# Altium footprint library PCB_Parts.PcbLib: 6 footprints
Each footprint in its own frame and in the unit in brackets; x right, y up, seen from the top. Pads: shape width x height; smd on the part's side, far side on the other; paste and mask are expansions set on the pad; w line width, h text height; cw(c..) or ccw(c..) is an arc to the next point about the centre after c.
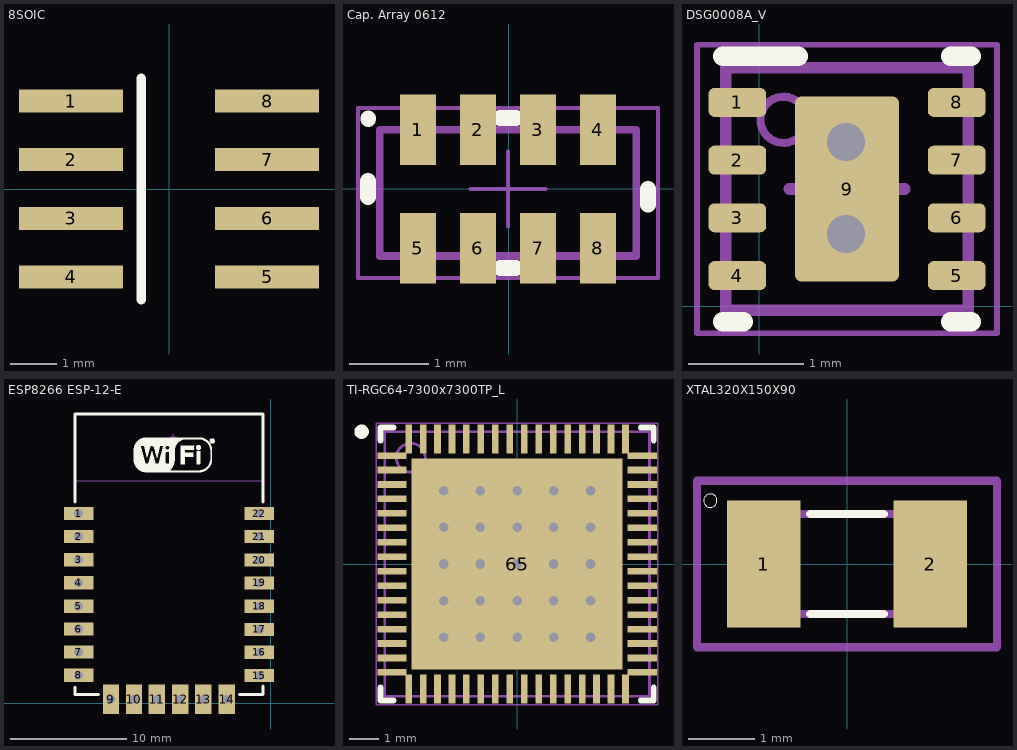
[diagram p0: the footprints below, top view; thin cyan lines are the x and y axes]

## 8SOIC [mm]
pads (8):
  rect 2.25x0.5 smd: 1(-2.125,1.905) 2(-2.125,0.635) 3(-2.125,-0.635) 4(-2.125,-1.905) 5(2.125,-1.905) 6(2.125,-0.635) 7(2.125,0.635) 8(2.125,1.905)
Top Overlay:
  lines w0.2: -0.6,-2.4 -0.6,2.4
3D body: height 0.75, standoff 0, extent -2.95,1.655 -1.95,2.155
3D body: height 0.75, standoff 0, extent -2.95,0.385 -1.95,0.885
3D body: height 0.75, standoff 0, extent -2.95,-0.885 -1.95,-0.385
3D body: height 0.75, standoff 0, extent 1.95,1.65 2.95,2.15
3D body: height 0.75, standoff 0, extent -2.95,-2.155 -1.95,-1.655
3D body: height 0.75, standoff 0, extent 1.95,-2.155 2.95,-1.655
3D body: height 0.75, standoff 0, extent 1.95,-0.885 2.95,-0.385
3D body: height 0.75, standoff 0, extent 1.95,0.385 2.95,0.885
3D body: height 0.75, standoff 0, extent 1.95,1.65 2.95,2.15
3D body: height 1.5, standoff 0, extent -1.95,-2.45 1.95,2.45

## Cap. Array 0612 [mm]
pads (8):
  rect 0.46x0.89 smd: 1(-1.148,0.745) 2(-0.388,0.745) 3(0.372,0.745) 4(1.132,0.745) 5(-1.148,-0.755) 6(-0.388,-0.755) 7(0.372,-0.755) 8(1.132,-0.755)
Top Overlay:
  lines w0.2: -1.783,-0.105 -1.783,0.095 ; -1.779,0.88 -1.778,0.892 ; -0.108,-1.005 0.092,-1.005 ; -0.108,0.895 0.092,0.895 ; 1.767,-0.205 1.767,-0.005
Mechanical 13:
  lines w0.1: -1.633,-0.855 1.617,-0.855 1.617,0.745 -1.633,0.745 -1.633,-0.855
Mechanical 15:
  lines w0.05: -0.483,-0.005 0.467,-0.005 ; -0.008,-0.48 -0.008,0.47 ; -1.908,-1.13 1.892,-1.13 1.892,1.02 -1.908,1.02 -1.908,-1.13
3D body: height 1.35, standoff 0, extent -1.608,-0.53 1.592,0.52
3D body: height 1.35, standoff 0, extent -1.608,0.52 1.592,0.695
3D body: height 1.35, standoff 0, extent -1.608,-0.805 1.592,-0.53

## DSG0008A_V [mm] "SON, 8-Leads, Body 2x2mm, Pitch 0.5mm, Thermal Pad 1.6x0.9mm, TI Recommended"
height 0.8
pads (9):
  rrect40% 0.5x0.25 smd: 1(-0.188,1.766) 2(-0.188,1.266) 3(-0.188,0.766) 4(-0.188,0.266) 5(1.712,0.266) 6(1.712,0.766) 7(1.712,1.266) 8(1.712,1.766)
  rrect11% 0.9x1.6 smd paste-0.45: 9(0.762,1.016)
via 0.754,0.625 diameter 0.686 hole 0.33
via 0.754,1.425 diameter 0.686 hole 0.33
Top Overlay:
  lines w0.17: -0.313,-0.134 -0.138,-0.134 ; -0.313,2.166 0.337,2.166 ; 1.662,-0.134 1.837,-0.134 ; 1.662,2.166 1.837,2.166
Top Paste:
  rectangle: 0.335,0.283 1.189,1.749
Mechanical 1:
  text ".Designator" at -0.762,2.54 h0.51
Mechanical 13:
  circle w0.07: c0.212,1.616 r0.2
  lines w0.1: -0.288,-0.034 1.812,-0.034 1.812,2.066 -0.288,2.066 -0.288,-0.034
Mechanical 15:
  lines w0.05: -0.538,-0.234 -0.538,2.266 2.062,2.266 2.062,-0.234 -0.538,-0.234
  lines w0.1: 0.262,1.016 1.262,1.016 ; 0.762,0.516 0.762,1.516
3D body: height 0.8, standoff 0, extent -0.288,-0.034 1.812,2.066
3D body: height 0.8, standoff 0.5, extent 0.013,1.417 0.411,1.815

## ESP8266 ESP-12-E [mil] "ESP8266 ESP-12-E"
pads (22):
  rect 100x45 hole 30: 1(-653,646) 2(-653,568) 3(-653,489) 4(-653,411) 5(-653,331) 6(-653,253) 7(-653,175) 8(-653,96) 15(-38,95) 16(-38,174) 17(-38,252) 18(-39,331) 19(-39,410) 20(-39,488) 21(-39,568) 22(-39,646)
  rect 55x100 hole 30: 9(-543,14) 10(-465,14) 11(-387,14) 12(-307,14) 13(-229,14) 14(-149,14)
Top Overlay:
  drawing of 1267 lines, arcs and shapes, not listed
  text ".Designator" at -679,-84 h39.37
Mechanical 13:
  lines w2: -662.96,757.97 -22.96,757.97
  text "CUTOUT POLYGON" at -652.96,940.59 h10
  text "ANTENNA AREA" at -652.96,960.59 h10
Mechanical 15:
  lines w3.94: -341,907.92 -321,907.92 ; -331,897.92 -331,917.92
3D body: height 85.7, standoff -1.17, extent -661,36.56 -31.08,981.44
3D body: height 88.58, standoff 0, extent -604.72,70.91 -89.53,670.39

## TI-RGC64-7300x7300TP_L [mm] "QFN, 64-Leads, Body 9.15x9.15mm, Pitch 0.50mm, Thermal Pad 7.30x7.30mm, IPC High Density"
height 1
pads (65):
  rect 1.016x0.229 smd: 1(-4.325,3.75) 2(-4.325,3.25) 3(-4.325,2.75) 4(-4.325,2.25) 5(-4.325,1.75) 6(-4.325,1.25) 7(-4.325,0.75) 8(-4.325,0.25) 9(-4.325,-0.25) 10(-4.325,-0.75) 11(-4.325,-1.25) 12(-4.325,-1.75) 13(-4.325,-2.25) 14(-4.325,-2.75) 15(-4.325,-3.25) 16(-4.325,-3.75) 33(4.325,-3.75) 34(4.325,-3.25) 35(4.325,-2.75) 36(4.325,-2.25) 37(4.325,-1.75) 38(4.325,-1.25) 39(4.325,-0.75) 40(4.325,-0.25) 41(4.325,0.25) 42(4.325,0.75) 43(4.325,1.25) 44(4.325,1.75) 45(4.325,2.25) 46(4.325,2.75) 47(4.325,3.25) 48(4.325,3.75)
  rect 0.229x1.016 smd: 17(-3.75,-4.325) 18(-3.25,-4.325) 19(-2.75,-4.325) 20(-2.25,-4.325) 21(-1.75,-4.325) 22(-1.25,-4.325) 23(-0.75,-4.325) 24(-0.25,-4.325) 25(0.25,-4.325) 26(0.75,-4.325) 27(1.25,-4.325) 28(1.75,-4.325) 29(2.25,-4.325) 30(2.75,-4.325) 31(3.25,-4.325) 32(3.75,-4.325) 49(3.75,4.325) 50(3.25,4.325) 51(2.75,4.325) 52(2.25,4.325) 53(1.75,4.325) 54(1.25,4.325) 55(0.75,4.325) 56(0.25,4.325) 57(-0.25,4.325) 58(-0.75,4.325) 59(-1.25,4.325) 60(-1.75,4.325) 61(-2.25,4.325) 62(-2.75,4.325) 63(-3.25,4.325) 64(-3.75,4.325)
  rect 7.3x7.3 smd: 65(0,0)
via -1.27,-2.54 diameter 0.686 hole 0.33
via 2.54,-2.54 diameter 0.686 hole 0.33
via 1.27,-2.54 diameter 0.686 hole 0.33
via 0,-2.54 diameter 0.686 hole 0.33
via -2.54,-2.54 diameter 0.686 hole 0.33
via -1.27,-1.27 diameter 0.686 hole 0.33
via 2.54,-1.27 diameter 0.686 hole 0.33
via 1.27,-1.27 diameter 0.686 hole 0.33
via 0,-1.27 diameter 0.686 hole 0.33
via -2.54,-1.27 diameter 0.686 hole 0.33
via -1.27,0 diameter 0.686 hole 0.33
via 2.54,0 diameter 0.686 hole 0.33
via 1.27,0 diameter 0.686 hole 0.33
via 0,0 diameter 0.686 hole 0.33
via -2.54,0 diameter 0.686 hole 0.33
via -1.27,1.27 diameter 0.686 hole 0.33
via 2.54,1.27 diameter 0.686 hole 0.33
via 1.27,1.27 diameter 0.686 hole 0.33
via 0,1.27 diameter 0.686 hole 0.33
via -2.54,1.27 diameter 0.686 hole 0.33
via -2.54,2.54 diameter 0.686 hole 0.33
via 0,2.54 diameter 0.686 hole 0.33
via 1.27,2.54 diameter 0.686 hole 0.33
via 2.54,2.54 diameter 0.686 hole 0.33
via -1.27,2.54 diameter 0.686 hole 0.33
Top Overlay:
  circle w0.25: c-5.375,4.575 r0.125
  lines w0.2: -4.725,-4.275 -4.725,-4.725 -4.275,-4.725 ; -4.725,4.275 -4.725,4.725 -4.275,4.725 ; 4.275,-4.725 4.725,-4.725 4.725,-4.275 ; 4.275,4.725 4.725,4.725 4.725,4.275
Mechanical 13:
  circle w0.1: c-3.675,3.675 r0.5
  lines w0.1: -4.575,-4.575 -4.575,4.575 4.575,4.575 4.575,-4.575 -4.575,-4.575
Mechanical 15:
  lines w0.05: -4.875,-4.875 -4.875,4.875 4.875,4.875 4.875,-4.875 -4.875,-4.875
  lines w0.1: -0.5,0 0.5,0 ; 0,-0.5 0,0.5
3D body: height 1, standoff 0, extent -4.575,-4.575 4.575,4.575

## XTAL320X150X90 [mm]
pads (2):
  rect 1.1x1.9 smd: 1(-1.25,0) 2(1.25,0)
Top Overlay:
  circle w0: c-2.05,0.95 r0.1
  lines w0.127: -0.55,-0.75 0.55,-0.75 ; -0.55,0.75 0.55,0.75
Mechanical 1:
  lines w0.127: -0.55,-0.75 -1.6,-0.75 -1.6,0.75 -0.55,0.75 ; 0.55,-0.75 1.6,-0.75 1.6,0.75 0.55,0.75 ; -2.25,-1.25 -2.25,1.25 2.25,1.25 2.25,-1.25 -2.25,-1.25